# Altium footprint library crystal.PcbLib: 1 footprints
Each footprint in its own frame and in the unit in brackets; x right, y up, seen from the top. Pads: shape width x height; smd on the part's side, far side on the other; paste and mask are expansions set on the pad; w line width, h text height; cw(c..) or ccw(c..) is an arc to the next point about the centre after c.
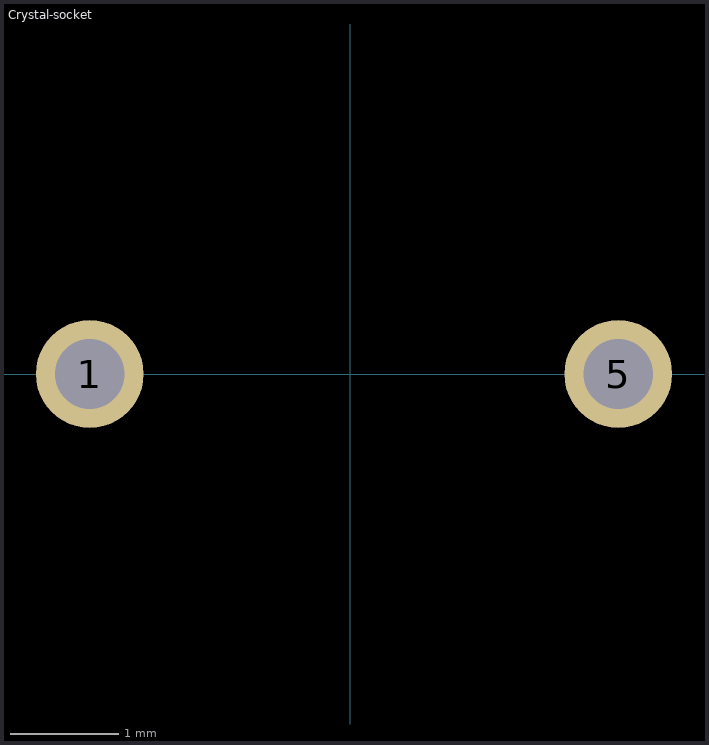
[diagram p0: the footprint, top view; thin cyan lines are the x and y axes]

## Crystal-socket [mm]
pads (2):
  round 1 hole 0.645: 1(-2.413,0) 5(2.487,0)
3D body: height 4.2, standoff 0, extent -6.096,-2.286 6.096,2.286